# EAGLE library part FH34SRJ-24S-0.5SH (library BW-Connectors)
24 pin FFC connector
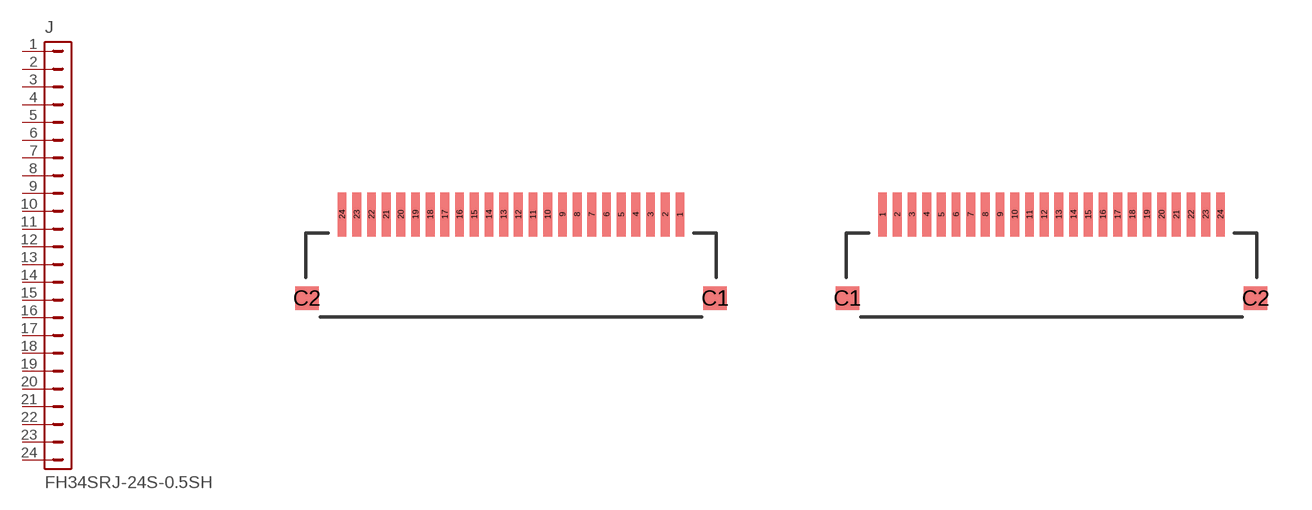
[diagram p8: symbol with the pads of FH34SRJ-24S-0.5SH; footprints FH34SRJ-24S-0.5SH, FH34SRJ-24S-0.5SH-MIRRORED]

Designator prefix J

## FH34SRJ-24S-0.5SH  [FH34SRJ-24S-0.5SH]
1  1  pas
2  2  pas
3  3  pas
4  4  pas
5  5  pas
6  6  pas
7  7  pas
8  8  pas
9  9  pas
10  10  pas
11  11  pas
12  12  pas
13  13  pas
14  14  pas
15  15  pas
16  16  pas
17  17  pas
18  18  pas
19  19  pas
20  20  pas
21  21  pas
22  22  pas
23  23  pas
24  24  pas

## FH34SRJ-24S-0.5SH(M)  [FH34SRJ-24S-0.5SH-MIRRORED]
Pads as for FH34SRJ-24S-0.5SH

## Footprint FH34SRJ-24S-0.5SH (pad centres in mm)
smd 0.3 x 1.5: 1 5.75,0.5; 2 5.25,0.5; 3 4.75,0.5; 4 4.25,0.5; 5 3.75,0.5; 6 3.25,0.5; 7 2.75,0.5; 8 2.25,0.5; 9 1.75,0.5; 10 1.25,0.5; 11 0.75,0.5; 12 0.25,0.5; 13 -0.25,0.5; 14 -0.75,0.5; 15 -1.25,0.5; 16 -1.75,0.5; 17 -2.25,0.5; 18 -2.75,0.5; 19 -3.25,0.5; 20 -3.75,0.5; 21 -4.25,0.5; 22 -4.75,0.5; 23 -5.25,0.5; 24 -5.75,0.5
smd 0.8 x 0.8: C1 6.95,-2.35; C2 -6.95,-2.35

## Footprint FH34SRJ-24S-0.5SH-MIRRORED (pad centres in mm)
smd 0.3 x 1.5: 1 -5.75,0.5; 2 -5.25,0.5; 3 -4.75,0.5; 4 -4.25,0.5; 5 -3.75,0.5; 6 -3.25,0.5; 7 -2.75,0.5; 8 -2.25,0.5; 9 -1.75,0.5; 10 -1.25,0.5; 11 -0.75,0.5; 12 -0.25,0.5; 13 0.25,0.5; 14 0.75,0.5; 15 1.25,0.5; 16 1.75,0.5; 17 2.25,0.5; 18 2.75,0.5; 19 3.25,0.5; 20 3.75,0.5; 21 4.25,0.5; 22 4.75,0.5; 23 5.25,0.5; 24 5.75,0.5
smd 0.8 x 0.8: C1 -6.95,-2.35; C2 6.95,-2.35